# EAGLE library part MP6500STEPPERMOTORDRIVERCARRIER (library MP6500 Stepper Motor Driver Carrier)
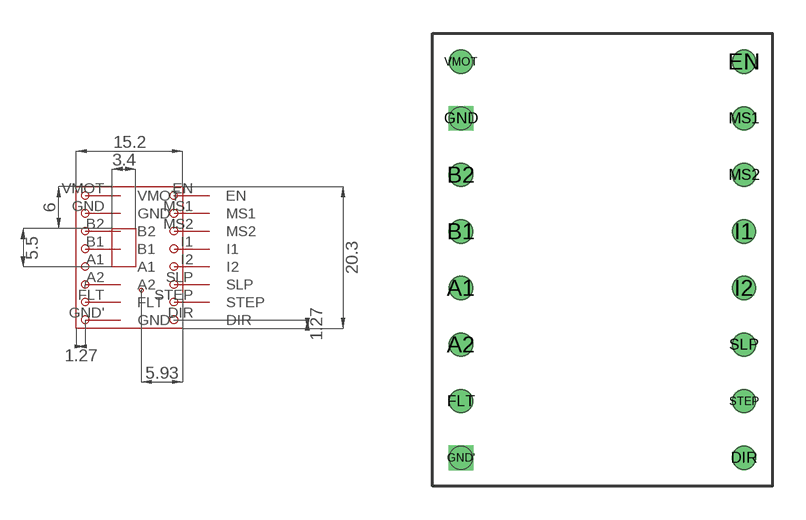
[diagram p0: symbol with the pads of MP6500STEPPERMOTORDRIVERCARRIER; footprint MP6500STEPPERMOTORDRIVERCARRIER]

Designator prefix -

## MP6500STEPPERMOTORDRIVERCARRIER  [MP6500STEPPERMOTORDRIVERCARRIER]
A1  A1
A2  A2
B1  B1
B2  B2
DIR  DIR
EN  EN
FLT  FLT
GND  GND
GND'  GND'
I1  I1
I2  I2
MS1  MS1
MS2  MS2
SLP  SLP
STEP  STEP
VMOT  VMOT

## Footprint MP6500STEPPERMOTORDRIVERCARRIER (pad centres in mm)
drill 0.6: A1 1.27,-11.43; A2 1.27,-13.97; B1 1.27,-8.89; B2 1.27,-6.35; DIR 13.97,-19.05; EN 13.97,-1.27; FLT 1.27,-16.51; I1 13.97,-8.89; I2 13.97,-11.43; MS1 13.97,-3.81; MS2 13.97,-6.35; SLP 13.97,-13.97; STEP 13.97,-16.51; VMOT 1.27,-1.27
drill 0.6 square: GND 1.27,-3.81; GND' 1.27,-19.05
hole 1.016 at 1.27,-1.27
hole 1.016 at 1.27,-3.81
hole 1.016 at 1.27,-6.35
hole 1.016 at 1.27,-8.89
hole 1.016 at 1.27,-11.43
hole 1.016 at 1.27,-13.97
hole 1.016 at 1.27,-16.51
hole 1.016 at 1.27,-19.05
hole 1.016 at 13.97,-1.27
hole 1.016 at 13.97,-3.81
hole 1.016 at 13.97,-6.35
hole 1.016 at 13.97,-8.89
hole 1.016 at 13.97,-11.43
hole 1.016 at 13.97,-13.97
hole 1.016 at 13.97,-16.51
hole 1.016 at 13.97,-19.05